# EAGLE library part VNC1L (library ftdichip)
USB Host Controller Viniculum
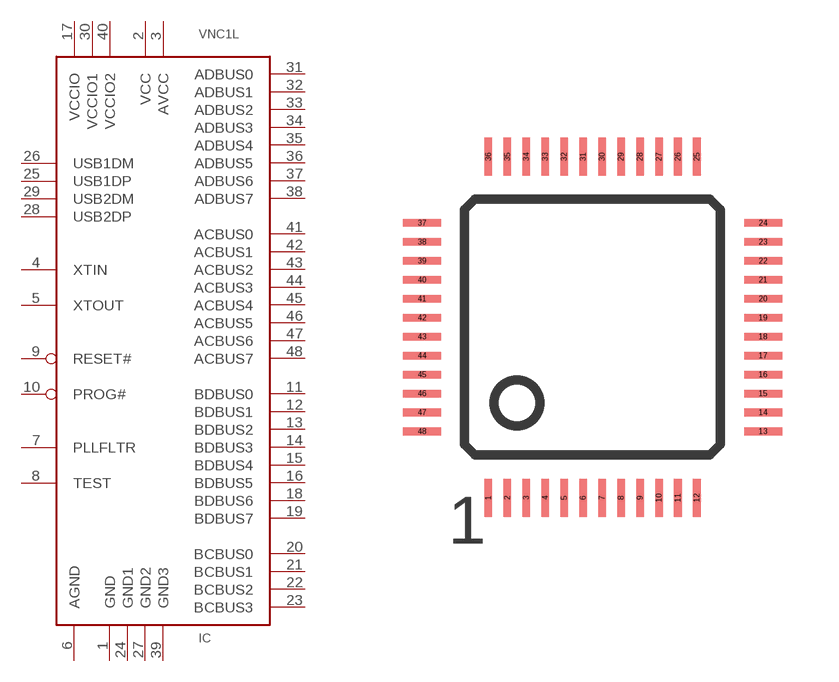
[diagram p7: symbol with the pads of LQFP48; footprint LQFP48]

Designator prefix IC

## VNC1L-1A  [LQFP48]
1  GND  pwr
2  VCC  pwr
3  AVCC  pwr
4  XTIN  in
5  XTOUT  out
6  AGND  pwr
7  PLLFLTR  in
8  TEST  in
9  RESET#  in
10  PROG#  in
11  BDBUS0
12  BDBUS1
13  BDBUS2
14  BDBUS3
15  BDBUS4
16  BDBUS5
17  VCCIO  pwr
18  BDBUS6
19  BDBUS7
20  BCBUS0
21  BCBUS1
22  BCBUS2
23  BCBUS3
24  GND1  pwr
25  USB1DP
26  USB1DM
27  GND2  pwr
28  USB2DP
29  USB2DM
30  VCCIO1  pwr
31  ADBUS0
32  ADBUS1
33  ADBUS2
34  ADBUS3
35  ADBUS4
36  ADBUS5
37  ADBUS6
38  ADBUS7
39  GND3  pwr
40  VCCIO2  pwr
41  ACBUS0
42  ACBUS1
43  ACBUS2
44  ACBUS3
45  ACBUS4
46  ACBUS5
47  ACBUS6
48  ACBUS7

## Footprint LQFP48 (pad centres in mm)
LQFP48
smd 0.2 x 1: 1 -2.75,-4.5; 2 -2.25,-4.5; 3 -1.75,-4.5; 4 -1.25,-4.5; 5 -0.75,-4.5; 6 -0.25,-4.5; 7 0.25,-4.5; 8 0.75,-4.5; 9 1.25,-4.5; 10 1.75,-4.5; 11 2.25,-4.5; 12 2.75,-4.5; 25 2.75,4.5; 26 2.25,4.5; 27 1.75,4.5; 28 1.25,4.5; 29 0.75,4.5; 30 0.25,4.5; 31 -0.25,4.5; 32 -0.75,4.5; 33 -1.25,4.5; 34 -1.75,4.5; 35 -2.25,4.5; 36 -2.75,4.5
smd 1 x 0.2: 13 4.5,-2.75; 14 4.5,-2.25; 15 4.5,-1.75; 16 4.5,-1.25; 17 4.5,-0.75; 18 4.5,-0.25; 19 4.5,0.25; 20 4.5,0.75; 21 4.5,1.25; 22 4.5,1.75; 23 4.5,2.25; 24 4.5,2.75; 37 -4.5,2.75; 38 -4.5,2.25; 39 -4.5,1.75; 40 -4.5,1.25; 41 -4.5,0.75; 42 -4.5,0.25; 43 -4.5,-0.25; 44 -4.5,-0.75; 45 -4.5,-1.25; 46 -4.5,-1.75; 47 -4.5,-2.25; 48 -4.5,-2.75